# Altium schematic symbol library RES_SMD.SchLib: 3 symbols
Pins are listed as number, name and electrical type; pins without a type are passive.

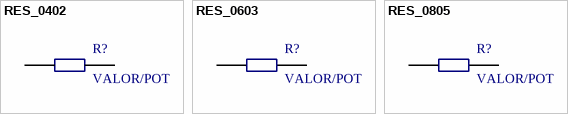
[diagram p0: symbols RES_0402 to RES_0805]

## RES_0402
designator R?, comment VALOR/POT
RES SMD 0402; value: VALOR/POT; footprint: SMD0402; PART NUMBER: PART NUMBER; FABRICANTE: FABRICANTE
footprint SMD-0402 (Chip Resistor; Body 1 x 0.5 mm (LxW typ))
pins: 1, 2

## RES_0603
designator R?, comment VALOR/POT
RES SMD 0603; value: VALOR/POT; footprint: SMD0603; PART NUMBER: PART NUMBER; FABRICANTE: FABRICANTE
footprint SMD-0603 (Chip Resistor; Body 1.6 x 0.8 mm (LxW typ))
pins: 1, 2

## RES_0805
designator R?, comment VALOR/POT
RES SMD 0805; value: VALOR/POT; footprint: SMD0805; PART NUMBER: PART NUMBER; FABRICANTE: FABRICANTE
footprint SMD-0805 (Chip Resistor; Body 2 x 1.3 mm (LxW typ))
pins: 1, 2